# EAGLE library part HCMS-2903 (library LEDs)
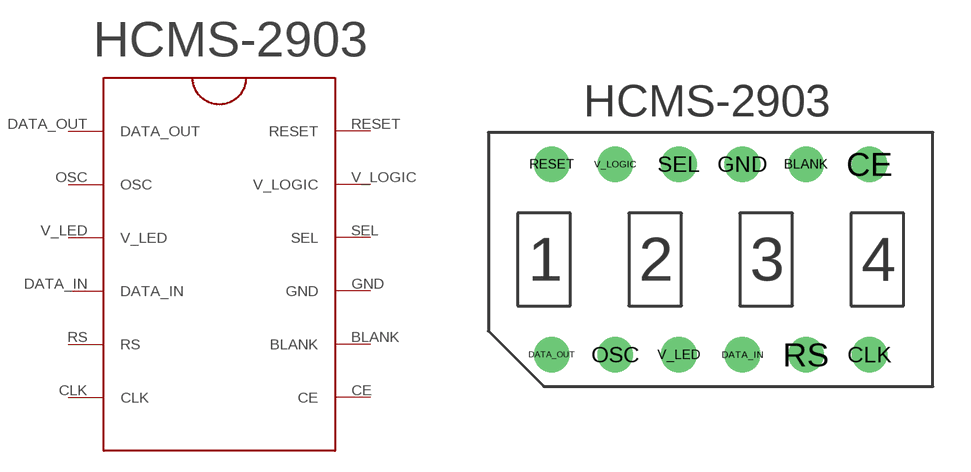
[diagram p1: symbol with the pads of HCMS-2903; footprint HCMS-2903]

Designator prefix -

## HCMS-2903  [HCMS-2903]
BLANK  BLANK
CE  CE
CLK  CLK
DATA_IN  DATA_IN
DATA_OUT  DATA_OUT
GND  GND
OSC  OSC
RESET  RESET
RS  RS
SEL  SEL
V_LED  V_LED
V_LOGIC  V_LOGIC

## Footprint HCMS-2903 (pad centres in mm)
drill 0.762 pad 1.422: BLANK 3.81,3.81; CE 6.35,3.81; CLK 6.35,-3.81; DATA_IN 1.27,-3.81; DATA_OUT -6.35,-3.81; GND 1.27,3.81; OSC -3.81,-3.81; RESET -6.35,3.81; RS 3.81,-3.81; SEL -1.27,3.81; V_LED -1.27,-3.81; V_LOGIC -3.81,3.81